# Altium schematic symbol library ESP.SchLib: 1 symbol
Pins are listed as number, name and electrical type; pins without a type are passive.

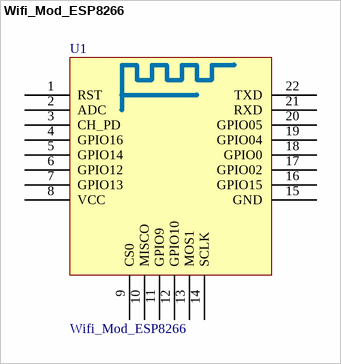
[diagram p0: symbol Wifi_Mod_ESP8266]

## Wifi_Mod_ESP8266
designator U1
footprint PCBComponent_1 - duplicate
pins: 1 RST, 2 ADC, 3 CH_PD, 4 GPIO16, 5 GPIO14, 6 GPIO12, 7 GPIO13, 8 VCC, 9 CS0, 10 MISCO, 11 GPIO9, 12 GPIO10, 13 MOS1, 14 SCLK, 15 GND, 16 GPIO15, 17 GPIO02, 18 GPIO0, 19 GPIO04, 20 GPIO05, 21 RXD, 22 TXD